# EAGLE library part TB6552 (library 15-MOSTEK-TB6552)
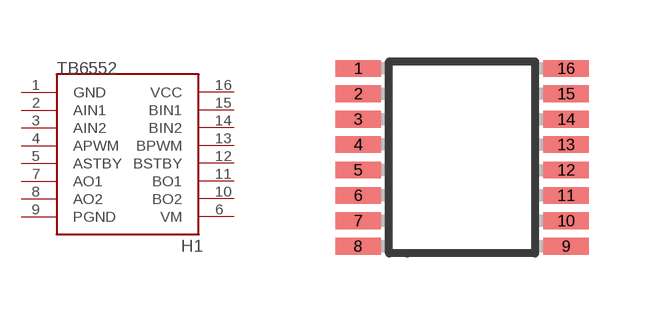
[diagram p0: symbol with the pads of SSOP16; footprint SSOP16]

Designator prefix -

## TB6552  [SSOP16]
1  GND
2  AIN1
3  AIN2
4  APWM
5  ASTBY
6  VM
7  AO1
8  AO2
9  PGND
10  BO2
11  BO1
12  BSTBY
13  BPWM
14  BIN2
15  BIN1
16  VCC

## Footprint SSOP16 (pad centres in mm)
GN Package 16-Lead Plastic SSOP (Narrow .150 Inch) Source: http://cds.linear.com/docs/Datasheet/623012fb.pdf
smd 1.143 x 0.419: 1 -2.6,2.223; 2 -2.6,1.587; 3 -2.6,0.953; 4 -2.6,0.318; 5 -2.6,-0.318; 6 -2.6,-0.953; 7 -2.6,-1.587; 8 -2.6,-2.223; 9 2.6,-2.223; 10 2.6,-1.587; 11 2.6,-0.953; 12 2.6,-0.318; 13 2.6,0.318; 14 2.6,0.953; 15 2.6,1.587; 16 2.6,2.223